# EAGLE library part LCS700-708 (library power_integrations)
The HiperLCS is an integrated LLC power stage incorporating a multi-function controller, high-side and low-side gate drivers, plus two power MOSFETs in a half-bridge configuration. Figure 1 shows a simplified schematic of a HiperLCS based power stage where the LLC resonant inductor is integrated into the transformer. The variable frequency controller provides high efficiency by switching the power MOSFETs at zero voltage (ZVS), eliminating switching losses.
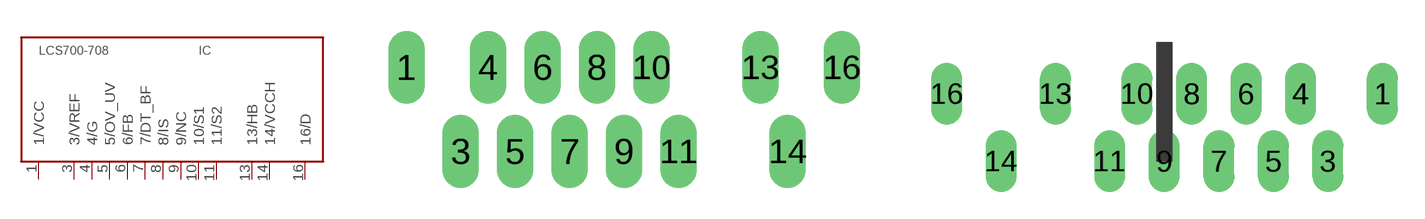
[diagram p5: symbol with the pads of SIP-E-16C(HPACKAGE); footprints SIP-E-16C(HPACKAGE), SIP-E-16K(L_PACKAGE)]

Designator prefix IC

## LCS700-708  [SIP-E-16C(HPACKAGE)]
1  1/VCC  pwr
3  3/VREF
4  4/G  pwr
5  5/OV_UV
6  6/FB
7  7/DT_BF
8  8/IS
9  9/NC  nc
10  10/S1
11  11/S2
13  13/HB
14  14/VCCH
16  16/D

## LCS700-708SIP-E-16K(L_PACKAGE)  [SIP-E-16K(L_PACKAGE)]
Pads as for SIP-E-16C(HPACKAGE)

## Footprint SIP-E-16C(HPACKAGE) (pad centres in mm)
drill 0.8 long: 1 -8.72,0; 3 -6.79,-3; 4 -5.82,0; 5 -4.85,-3; 6 -3.88,0; 7 -2.91,-3; 8 -1.94,0; 9 -0.97,-3; 10 0,0; 11 0.97,-3; 13 3.88,0; 14 4.85,-3; 16 6.79,0

## Footprint SIP-E-16K(L_PACKAGE) (pad centres in mm)
drill 0.6 long: 1 7.75,0; 3 5.82,-2.4; 4 4.85,0; 5 3.88,-2.4; 6 2.91,0; 7 1.94,-2.4; 8 0.97,0; 9 0,-2.4; 10 -0.97,0; 11 -1.94,-2.4; 13 -3.87,0; 14 -5.8,-2.4; 16 -7.73,0